# EAGLE library part 1-2834015-6 (library SamacSys_Parts)
Fixed Terminal Blocks 6POS 2.54MM TES CONN Source: Datasheet
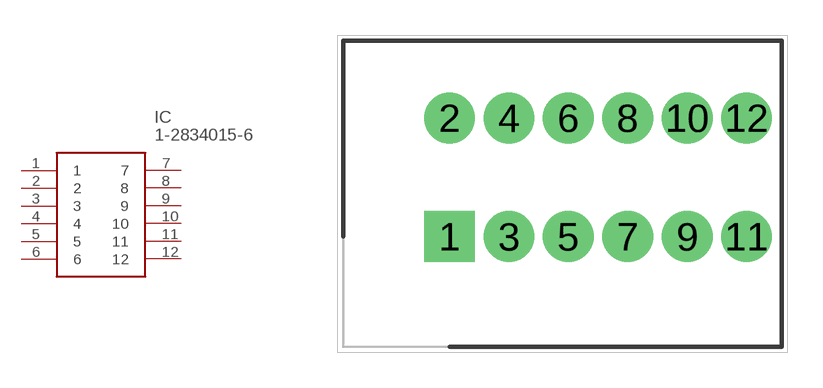
[diagram p0: symbol with the pads of SHDR12W90P508X254_2X6_1824X128; footprint SHDR12W90P508X254_2X6_1824X128]

Designator prefix IC

## 1-2834015-6 (Description: Fixed Terminal Blocks 6POS 2.54MM TES CONN; Height: 13.9mm; Manufacturer_Name: TE Connectivity; Manufacturer_Part_Number: 1-2834015-6; Mouser_Part_Number: 571-1-2834015-6; Mouser_Price-Stock: https://www.mouser.co.uk/ProductDetail/TE-Connectivity-PB/1-2834015-6?qs=0ns%252B%2F2Cp7jExtUGsWLqwmw%3D%3D)  [SHDR12W90P508X254_2X6_1824X128]
1  1
2  2
3  3
4  4
5  5
6  6
7  7
8  8
9  9
10  10
11  11
12  12

## Footprint SHDR12W90P508X254_2X6_1824X128 (pad centres in mm)
1-2834015-6_a
drill 1.45 pad 2.175 square: 1 0,0
drill 1.45 pad 2.175: 2 0,5.08; 3 2.54,0; 4 2.54,5.08; 5 5.08,0; 6 5.08,5.08; 7 7.62,0; 8 7.62,5.08; 9 10.16,0; 10 10.16,5.08; 11 12.7,0; 12 12.7,5.08